# EAGLE library part USB_TO_UART_DEV (library Blizzard_Library)
SINGLE-CHIP USB-TO-UART BRIDGE PN: 336-1160-5-ND
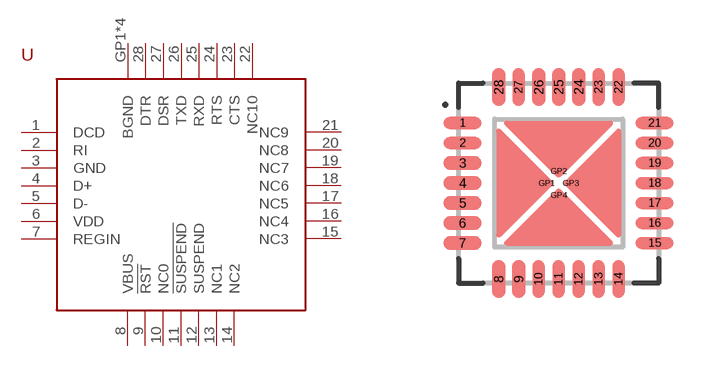
[diagram p2: symbol with the pads of QFN50P500X500X100-28; footprint QFN50P500X500X100-28]

Designator prefix U

## USB_TO_UART_DEV (PN: CP2102)  [QFN50P500X500X100-28]
1  DCD
2  RI
3  GND
4  D+
5  D-
6  VDD
7  REGIN
8  VBUS
9  !RST
10  NC0
11  !SUSPEND
12  SUSPEND
13  NC1
14  NC2
15  NC3
16  NC4
17  NC5
18  NC6
19  NC7
20  NC8
21  NC9
22  NC10
23  CTS
24  RTS
25  RXD
26  TXD
27  DSR
28  DTR
GP1  BGND
GP2  BGND
GP3  BGND
GP4  BGND

## Footprint QFN50P500X500X100-28 (pad centres in mm)
28-QFN, 0.5 mm pitch, 5 X 5 X 1 mm body 28-pin QFN package with 0.5 mm pitch with body size 5 X 5 X 1 mm
smd 0.95 x 0.3: 1 -2.4,1.5; 2 -2.4,1; 15 2.4,-1.5; 16 2.4,-1; 17 2.4,-0.5; 18 2.4,0; 19 2.4,0.5; 20 2.4,1; 21 2.4,1.5
smd 0.95 x 0.34: 3 -2.4,0.5; 4 -2.4,0; 5 -2.4,-0.5; 6 -2.4,-1; 7 -2.4,-1.5
smd 0.34 x 0.95: 8 -1.5,-2.4; 9 -1,-2.4; 24 0.5,2.4; 25 0,2.4; 26 -0.5,2.4; 28 -1.5,2.4
smd 0.3 x 0.95: 10 -0.5,-2.4; 11 0,-2.4; 12 0.5,-2.4; 13 1,-2.4; 14 1.5,-2.4; 22 1.5,2.4; 23 1,2.4; 27 -1,2.4
smd 0.1 x 0.1: GP1 -0.3,0; GP2 0,0.3; GP3 0.3,0; GP4 0,-0.3